# Altium integrated library NSC Switcher.IntLib: 2027 symbols (part 43 of 54)
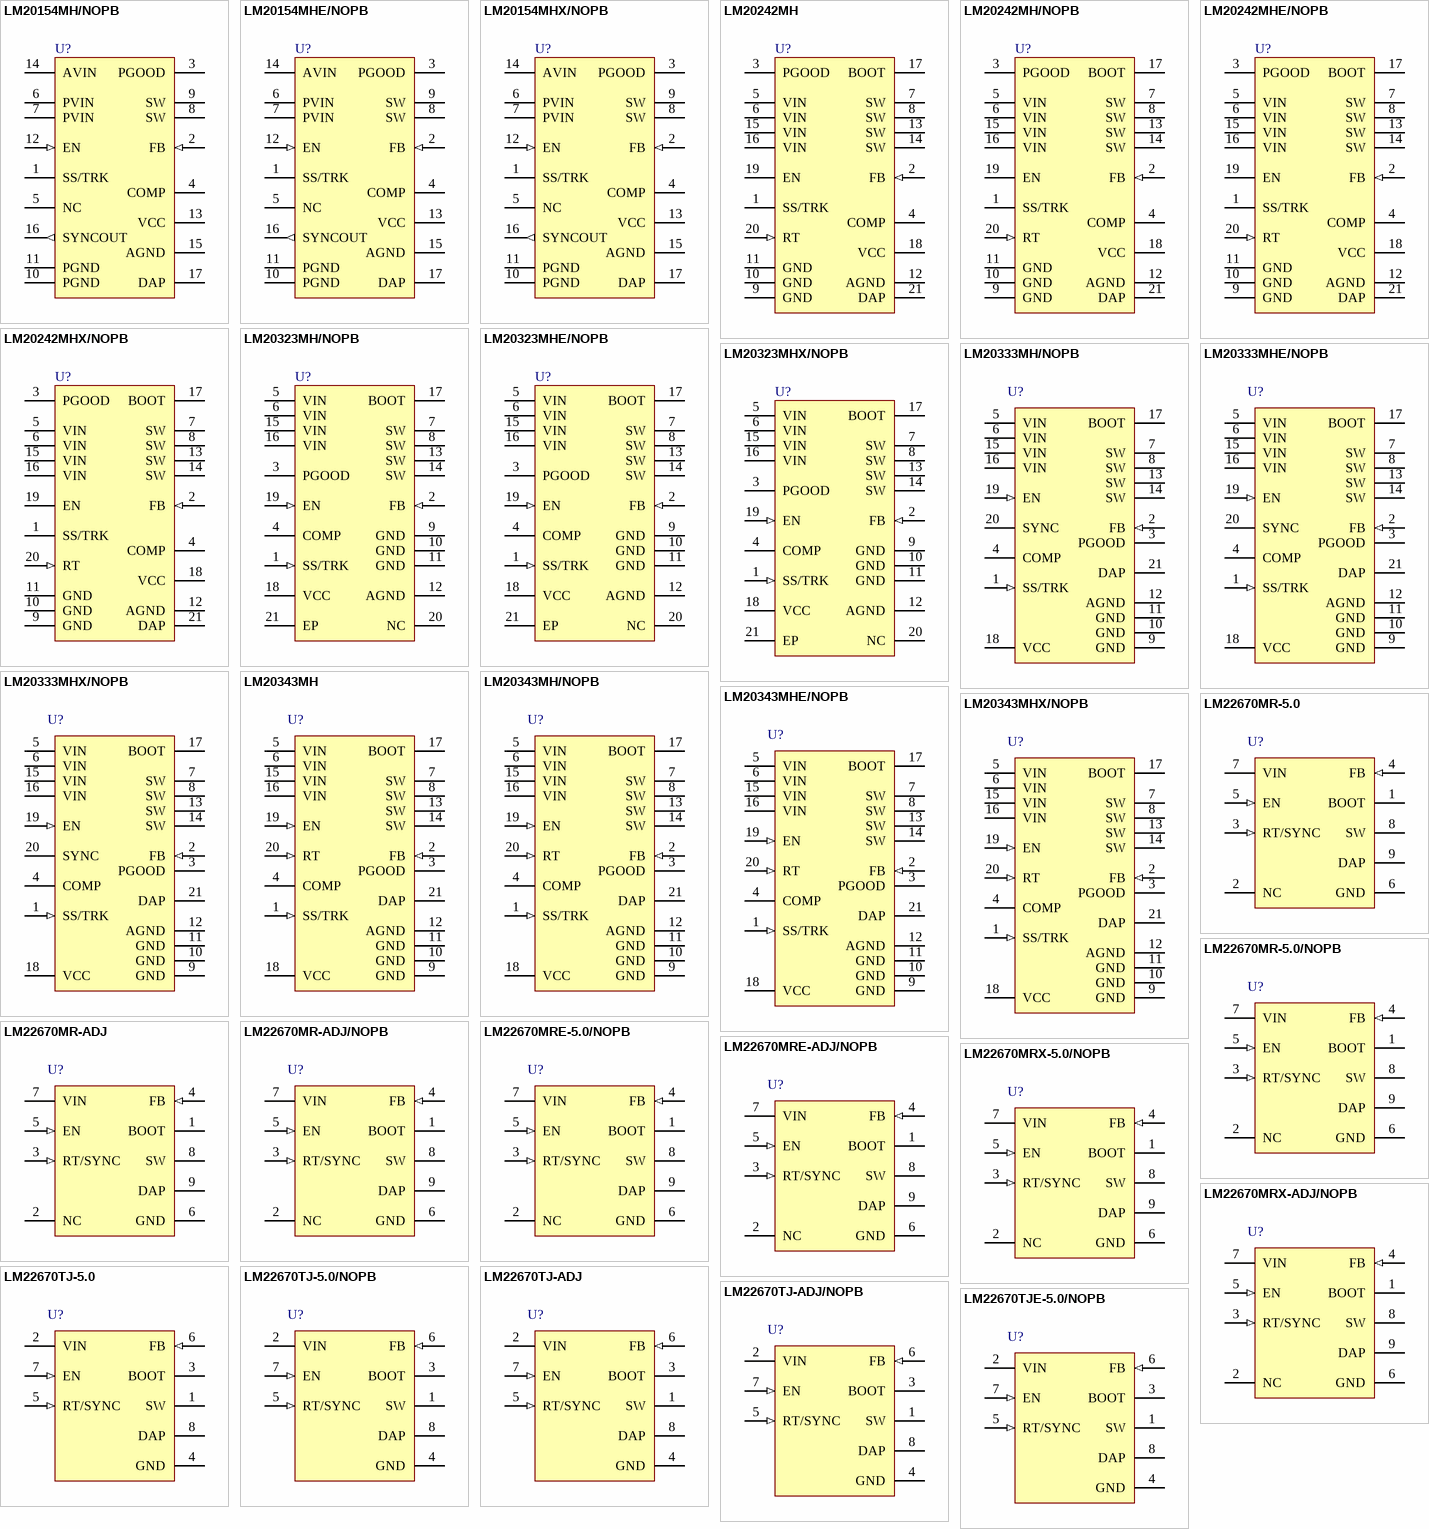
[diagram p105: symbols LM20154MH/NOPB to LM22670TJE-5.0/NOPB]

## LM20154MH/NOPB
designator U?
4A, 1MHz Synchronous Buck Regulator with SYNCOUT, 16-pin TSSOP-EP, Pb-Free; PartNumber: LM20154MH/NOPB; Manufacturer: National Semiconductor; PackageTopMarking: NSUZXYTT*20154*MH; PowerWise: Y; CompType: Switcher; Published: 1-Mar-2010; DatasheetVersion: Dec-2008; PackageVersion: revA, Apr-2003; PackageReference: MXA16A; Publisher: Altium Limited; PackageDescription: Molded TSSOP, Jedec, Exposed Pad, 5.0 x 4.4 x 0.9mm Body,16 Lead, 0.65mm Pitch; Supplier 1: Digi-Key; Supplier Part Number 1: LM20154MH-ND; RoHS: Y; PinCount: 16; Code_JEDEC: MO-153-ABT; ComponentLink1Description: LM20154 Datasheet; ComponentLink1URL: http://www.national.com/ds/LM/LM20154.pdf; ComponentLink2Description: LM20154 Web Page; ComponentLink2URL: http://www.national.com/pf/LM/LM20154.html; ComponentLink3Description: MXA16A Package Page; ComponentLink3URL: http://www.national.com/packaging/folders/mxa16a.html
footprint MXA16A_N (TSOP, 16-Leads, Body 5x4.4mm, Pitch 0.65mm, Exposed Pad, IPC Medium Density)
footprint MXA16A_L (TSOP, 16-Leads, Body 5x4.4mm, Pitch 0.65mm, Exposed Pad, IPC High Density)
footprint MXA16A_M (TSOP, 16-Leads, Body 5x4.4mm, Pitch 0.65mm, Exposed Pad, IPC Low Density)
pins: 1 SS/TRK, 2 FB (in), 3 PGOOD (oc), 4 COMP, 5 NC, 6 PVIN (power), 7 PVIN (power), 8 SW (power), 9 SW (power), 10 PGND (power), 11 PGND (power), 12 EN (in), 13 VCC (power), 14 AVIN (power), 15 AGND (power), 16 SYNCOUT (out), 17 DAP (power)

## LM20154MHE/NOPB
designator U?
4A, 1MHz Synchronous Buck Regulator with SYNCOUT, 16-pin TSSOP-EP, Pb-Free; PartNumber: LM20154MHE/NOPB; Manufacturer: National Semiconductor; PackageTopMarking: NSUZXYTT*20154*MH; PowerWise: Y; CompType: Switcher; Published: 1-Mar-2010; DatasheetVersion: Dec-2008; PackageVersion: revA, Apr-2003; PackageReference: MXA16A; Publisher: Altium Limited; PackageDescription: Molded TSSOP, Jedec, Exposed Pad, 5.0 x 4.4 x 0.9mm Body,16 Lead, 0.65mm Pitch; Supplier 1: Digi-Key; Supplier Part Number 1: LM20154MHE-ND; RoHS: Y; PinCount: 16; Code_JEDEC: MO-153-ABT; ComponentLink1Description: LM20154 Datasheet; ComponentLink1URL: http://www.national.com/ds/LM/LM20154.pdf; ComponentLink2Description: LM20154 Web Page; ComponentLink2URL: http://www.national.com/pf/LM/LM20154.html; ComponentLink3Description: MXA16A Package Page; ComponentLink3URL: http://www.national.com/packaging/folders/mxa16a.html
footprint MXA16A_N (TSOP, 16-Leads, Body 5x4.4mm, Pitch 0.65mm, Exposed Pad, IPC Medium Density)
footprint MXA16A_L (TSOP, 16-Leads, Body 5x4.4mm, Pitch 0.65mm, Exposed Pad, IPC High Density)
footprint MXA16A_M (TSOP, 16-Leads, Body 5x4.4mm, Pitch 0.65mm, Exposed Pad, IPC Low Density)
pins: 1 SS/TRK, 2 FB (in), 3 PGOOD (oc), 4 COMP, 5 NC, 6 PVIN (power), 7 PVIN (power), 8 SW (power), 9 SW (power), 10 PGND (power), 11 PGND (power), 12 EN (in), 13 VCC (power), 14 AVIN (power), 15 AGND (power), 16 SYNCOUT (out), 17 DAP (power)

## LM20154MHX/NOPB
designator U?
4A, 1MHz Synchronous Buck Regulator with SYNCOUT, 16-pin TSSOP-EP, Pb-Free; PartNumber: LM20154MHX/NOPB; Manufacturer: National Semiconductor; PackageTopMarking: NSUZXYTT*20154*MH; PowerWise: Y; CompType: Switcher; Published: 1-Mar-2010; DatasheetVersion: Dec-2008; PackageVersion: revA, Apr-2003; PackageReference: MXA16A; Publisher: Altium Limited; PackageDescription: Molded TSSOP, Jedec, Exposed Pad, 5.0 x 4.4 x 0.9mm Body,16 Lead, 0.65mm Pitch; Supplier 1: Digi-Key; Supplier Part Number 1: LM20154MHX-ND; RoHS: Y; PinCount: 16; Code_JEDEC: MO-153-ABT; ComponentLink1Description: LM20154 Datasheet; ComponentLink1URL: http://www.national.com/ds/LM/LM20154.pdf; ComponentLink2Description: LM20154 Web Page; ComponentLink2URL: http://www.national.com/pf/LM/LM20154.html; ComponentLink3Description: MXA16A Package Page; ComponentLink3URL: http://www.national.com/packaging/folders/mxa16a.html
footprint MXA16A_N (TSOP, 16-Leads, Body 5x4.4mm, Pitch 0.65mm, Exposed Pad, IPC Medium Density)
footprint MXA16A_L (TSOP, 16-Leads, Body 5x4.4mm, Pitch 0.65mm, Exposed Pad, IPC High Density)
footprint MXA16A_M (TSOP, 16-Leads, Body 5x4.4mm, Pitch 0.65mm, Exposed Pad, IPC Low Density)
pins: 1 SS/TRK, 2 FB (in), 3 PGOOD (oc), 4 COMP, 5 NC, 6 PVIN (power), 7 PVIN (power), 8 SW (power), 9 SW (power), 10 PGND (power), 11 PGND (power), 12 EN (in), 13 VCC (power), 14 AVIN (power), 15 AGND (power), 16 SYNCOUT (out), 17 DAP (power)

## LM20242MH
designator U?
36V, 2A PowerWise Adjustable Frequency Synchronous Buck Regulator, 20-pin TSSOP-EP; PartNumber: LM20242MH; Manufacturer: National Semiconductor; PackageTopMarking: NSUZXYTT*20242*MH; PowerWise: Y; CompType: Switcher; Published: 4-Dec-2008; DatasheetVersion: May-2008; PackageVersion: revC, Jul-2006; PackageReference: MXA20A; Publisher: Altium Limited; PackageDescription: Molded TSSOP, Jedec, 6.5 x 4.4 x 0.9mm Body, 20 Lead, 0.65mm Pitch, Exposed Pad; Supplier 1: Farnell; Supplier Part Number 1: 1495078; RoHS: Y; PinCount: 20; Code_JEDEC: MO-153-ACT; ComponentLink1Description: LM20242 Datasheet; ComponentLink1URL: http://www.national.com/ds/LM/LM20242.pdf; ComponentLink2Description: LM20242 Web Page; ComponentLink2URL: http://www.national.com/pf/LM/LM20242.html; ComponentLink3Description: MXA20A Package Page; ComponentLink3URL: http://www.national.com/packaging/folders/mxa20a.html
footprint MXA20A_N (TSOP, 20-Leads, Body 6.5x4.4mm, Pitch 0.65mm, Exposed Pad, IPC Medium Density)
footprint MXA20A_L (TSOP, 20-Leads, Body 6.5x4.4mm, Pitch 0.65mm, Exposed Pad, IPC High Density)
footprint MXA20A_M (TSOP, 20-Leads, Body 6.5x4.4mm, Pitch 0.65mm, Exposed Pad, IPC Low Density)
pins: 1 SS/TRK, 2 FB (in), 3 PGOOD (oc), 4 COMP, 5 VIN (power), 6 VIN (power), 7 SW (power), 8 SW (power), 9 GND (power), 10 GND (power), 11 GND (power), 12 AGND (power), 13 SW (power), 14 SW (power), 15 VIN (power), 16 VIN (power), 17 BOOT, 18 VCC (power), 19 EN, 20 RT (in), 21 DAP (power)

## LM20242MH/NOPB
designator U?
36V, 2A PowerWise Adjustable Frequency Synchronous Buck Regulator, 20-pin TSSOP-EP, Pb-Free; PartNumber: LM20242MH/NOPB; Manufacturer: National Semiconductor; PackageTopMarking: NSUZXYTT*20242*MH; PowerWise: Y; CompType: Switcher; Published: 1-Mar-2010; DatasheetVersion: May-2008; PackageVersion: revC, Jul-2006; PackageReference: MXA20A; Publisher: Altium Limited; PackageDescription: Molded TSSOP, Jedec, 6.5 x 4.4 x 0.9mm Body, 20 Lead, 0.65mm Pitch, Exposed Pad; Supplier 1: Digi-Key; Supplier Part Number 1: LM20242MH-ND; RoHS: Y; PinCount: 20; Code_JEDEC: MO-153-ACT; ComponentLink1Description: LM20242 Datasheet; ComponentLink1URL: http://www.national.com/ds/LM/LM20242.pdf; ComponentLink2Description: LM20242 Web Page; ComponentLink2URL: http://www.national.com/pf/LM/LM20242.html; ComponentLink3Description: MXA20A Package Page; ComponentLink3URL: http://www.national.com/packaging/folders/mxa20a.html
footprint MXA20A_N (TSOP, 20-Leads, Body 6.5x4.4mm, Pitch 0.65mm, Exposed Pad, IPC Medium Density)
footprint MXA20A_L (TSOP, 20-Leads, Body 6.5x4.4mm, Pitch 0.65mm, Exposed Pad, IPC High Density)
footprint MXA20A_M (TSOP, 20-Leads, Body 6.5x4.4mm, Pitch 0.65mm, Exposed Pad, IPC Low Density)
pins: 1 SS/TRK, 2 FB (in), 3 PGOOD (oc), 4 COMP, 5 VIN (power), 6 VIN (power), 7 SW (power), 8 SW (power), 9 GND (power), 10 GND (power), 11 GND (power), 12 AGND (power), 13 SW (power), 14 SW (power), 15 VIN (power), 16 VIN (power), 17 BOOT, 18 VCC (power), 19 EN, 20 RT (in), 21 DAP (power)

## LM20242MHE/NOPB
designator U?
36V, 2A PowerWise Adjustable Frequency Synchronous Buck Regulator, 20-pin TSSOP-EP, Pb-Free; PartNumber: LM20242MHE/NOPB; Manufacturer: National Semiconductor; PackageTopMarking: NSUZXYTT*20242*MH; PowerWise: Y; CompType: Switcher; Published: 1-Mar-2010; DatasheetVersion: May-2008; PackageVersion: revC, Jul-2006; PackageReference: MXA20A; Publisher: Altium Limited; PackageDescription: Molded TSSOP, Jedec, 6.5 x 4.4 x 0.9mm Body, 20 Lead, 0.65mm Pitch, Exposed Pad; Supplier 1: Digi-Key; Supplier Part Number 1: LM20242MHE-ND; RoHS: Y; PinCount: 20; Code_JEDEC: MO-153-ACT; ComponentLink1Description: LM20242 Datasheet; ComponentLink1URL: http://www.national.com/ds/LM/LM20242.pdf; ComponentLink2Description: LM20242 Web Page; ComponentLink2URL: http://www.national.com/pf/LM/LM20242.html; ComponentLink3Description: MXA20A Package Page; ComponentLink3URL: http://www.national.com/packaging/folders/mxa20a.html
footprint MXA20A_N (TSOP, 20-Leads, Body 6.5x4.4mm, Pitch 0.65mm, Exposed Pad, IPC Medium Density)
footprint MXA20A_L (TSOP, 20-Leads, Body 6.5x4.4mm, Pitch 0.65mm, Exposed Pad, IPC High Density)
footprint MXA20A_M (TSOP, 20-Leads, Body 6.5x4.4mm, Pitch 0.65mm, Exposed Pad, IPC Low Density)
pins: 1 SS/TRK, 2 FB (in), 3 PGOOD (oc), 4 COMP, 5 VIN (power), 6 VIN (power), 7 SW (power), 8 SW (power), 9 GND (power), 10 GND (power), 11 GND (power), 12 AGND (power), 13 SW (power), 14 SW (power), 15 VIN (power), 16 VIN (power), 17 BOOT, 18 VCC (power), 19 EN, 20 RT (in), 21 DAP (power)

## LM20242MHX/NOPB
designator U?
36V, 2A PowerWise Adjustable Frequency Synchronous Buck Regulator, 20-pin TSSOP-EP, Pb-Free; PartNumber: LM20242MHX/NOPB; Manufacturer: National Semiconductor; PackageTopMarking: NSUZXYTT*20242*MH; PowerWise: Y; CompType: Switcher; Published: 1-Mar-2010; DatasheetVersion: May-2008; PackageVersion: revC, Jul-2006; PackageReference: MXA20A; Publisher: Altium Limited; PackageDescription: Molded TSSOP, Jedec, 6.5 x 4.4 x 0.9mm Body, 20 Lead, 0.65mm Pitch, Exposed Pad; Supplier 1: Digi-Key; Supplier Part Number 1: LM20242MHX-ND; RoHS: Y; PinCount: 20; Code_JEDEC: MO-153-ACT; ComponentLink1Description: LM20242 Datasheet; ComponentLink1URL: http://www.national.com/ds/LM/LM20242.pdf; ComponentLink2Description: LM20242 Web Page; ComponentLink2URL: http://www.national.com/pf/LM/LM20242.html; ComponentLink3Description: MXA20A Package Page; ComponentLink3URL: http://www.national.com/packaging/folders/mxa20a.html
footprint MXA20A_N (TSOP, 20-Leads, Body 6.5x4.4mm, Pitch 0.65mm, Exposed Pad, IPC Medium Density)
footprint MXA20A_L (TSOP, 20-Leads, Body 6.5x4.4mm, Pitch 0.65mm, Exposed Pad, IPC High Density)
footprint MXA20A_M (TSOP, 20-Leads, Body 6.5x4.4mm, Pitch 0.65mm, Exposed Pad, IPC Low Density)
pins: 1 SS/TRK, 2 FB (in), 3 PGOOD (oc), 4 COMP, 5 VIN (power), 6 VIN (power), 7 SW (power), 8 SW (power), 9 GND (power), 10 GND (power), 11 GND (power), 12 AGND (power), 13 SW (power), 14 SW (power), 15 VIN (power), 16 VIN (power), 17 BOOT, 18 VCC (power), 19 EN, 20 RT (in), 21 DAP (power)

## LM20323MH/NOPB
designator U?
36V, 3A 500 kHz Synchronous Buck Regulator, 20-pin TSSOP-EP, Pb-Free; PartNumber: LM20323MH/NOPB; Manufacturer: National Semiconductor; PackageTopMarking: NSUZXYTT*20323MH; PowerWise: Y; CompType: Switcher; Published: 1-Mar-2010; DatasheetVersion: Jun-2008; PackageVersion: revC, Jul-2006; PackageReference: MXA20A; Publisher: Altium Limited; PackageDescription: Molded TSSOP, Jedec, 6.5 x 4.4 x 0.9mm Body, 20 Lead, 0.65mm Pitch, Exposed Pad; Supplier 1: Digi-Key; Supplier Part Number 1: LM20323MH-ND; RoHS: Y; PinCount: 20; Code_JEDEC: MO-153-ACT; ComponentLink1Description: LM20323 Datasheet; ComponentLink1URL: http://www.national.com/ds/LM/LM20323.pdf; ComponentLink2Description: LM20323 Web Page; ComponentLink2URL: http://www.national.com/pf/LM/LM20323.html; ComponentLink3Description: MXA20A Package Page; ComponentLink3URL: http://www.national.com/packaging/folders/mxa20a.html
footprint MXA20A_N (TSOP, 20-Leads, Body 6.5x4.4mm, Pitch 0.65mm, Exposed Pad, IPC Medium Density)
footprint MXA20A_L (TSOP, 20-Leads, Body 6.5x4.4mm, Pitch 0.65mm, Exposed Pad, IPC High Density)
footprint MXA20A_M (TSOP, 20-Leads, Body 6.5x4.4mm, Pitch 0.65mm, Exposed Pad, IPC Low Density)
pins: 1 SS/TRK (in), 2 FB (in), 3 PGOOD (oc), 4 COMP, 5 VIN (power), 6 VIN (power), 7 SW (power), 8 SW (power), 9 GND (power), 10 GND (power), 11 GND (power), 12 AGND (power), 13 SW (power), 14 SW (power), 15 VIN (power), 16 VIN (power), 17 BOOT, 18 VCC (power), 19 EN (in), 20 NC, 21 EP (power)

## LM20323MHE/NOPB
designator U?
36V,3A 500 kHz Synchronous Buck Regulator, 20-pin TSSOP-EP, Pb-Free; PartNumber: LM20323MHE/NOPB; Manufacturer: National Semiconductor; PackageTopMarking: NSUZXYTT*20323MH; PowerWise: Y; CompType: Switcher; Published: 1-Mar-2010; DatasheetVersion: Jun-2008; PackageVersion: revC, Jul-2006; PackageReference: MXA20A; Publisher: Altium Limited; PackageDescription: Molded TSSOP, Jedec, 6.5 x 4.4 x 0.9mm Body, 20 Lead, 0.65mm Pitch, Exposed Pad; Supplier 1: Digi-Key; Supplier Part Number 1: LM20323MHE-ND; RoHS: Y; PinCount: 20; Code_JEDEC: MO-153-ACT; ComponentLink1Description: LM20323 Datasheet; ComponentLink1URL: http://www.national.com/ds/LM/LM20323.pdf; ComponentLink2Description: LM20323 Web Page; ComponentLink2URL: http://www.national.com/pf/LM/LM20323.html; ComponentLink3Description: MXA20A Package Page; ComponentLink3URL: http://www.national.com/packaging/folders/mxa20a.html
footprint MXA20A_N (TSOP, 20-Leads, Body 6.5x4.4mm, Pitch 0.65mm, Exposed Pad, IPC Medium Density)
footprint MXA20A_L (TSOP, 20-Leads, Body 6.5x4.4mm, Pitch 0.65mm, Exposed Pad, IPC High Density)
footprint MXA20A_M (TSOP, 20-Leads, Body 6.5x4.4mm, Pitch 0.65mm, Exposed Pad, IPC Low Density)
pins: 1 SS/TRK (in), 2 FB (in), 3 PGOOD (oc), 4 COMP, 5 VIN (power), 6 VIN (power), 7 SW (power), 8 SW (power), 9 GND (power), 10 GND (power), 11 GND (power), 12 AGND (power), 13 SW (power), 14 SW (power), 15 VIN (power), 16 VIN (power), 17 BOOT, 18 VCC (power), 19 EN (in), 20 NC, 21 EP (power)

## LM20323MHX/NOPB
designator U?
36V,3A 500 kHz Synchronous Buck Regulator, 20-pin TSSOP-EP, Pb-Free; PartNumber: LM20323MHX/NOPB; Manufacturer: National Semiconductor; PackageTopMarking: NSUZXYTT*20323MH; PowerWise: Y; CompType: Switcher; Published: 1-Mar-2010; DatasheetVersion: Jun-2008; PackageVersion: revC, Jul-2006; PackageReference: MXA20A; Publisher: Altium Limited; PackageDescription: Molded TSSOP, Jedec, 6.5 x 4.4 x 0.9mm Body, 20 Lead, 0.65mm Pitch, Exposed Pad; Supplier 1: Digi-Key; Supplier Part Number 1: LM20323MHX-ND; RoHS: Y; PinCount: 20; Code_JEDEC: MO-153-ACT; ComponentLink1Description: LM20323 Datasheet; ComponentLink1URL: http://www.national.com/ds/LM/LM20323.pdf; ComponentLink2Description: LM20323 Web Page; ComponentLink2URL: http://www.national.com/pf/LM/LM20323.html; ComponentLink3Description: MXA20A Package Page; ComponentLink3URL: http://www.national.com/packaging/folders/mxa20a.html
footprint MXA20A_N (TSOP, 20-Leads, Body 6.5x4.4mm, Pitch 0.65mm, Exposed Pad, IPC Medium Density)
footprint MXA20A_L (TSOP, 20-Leads, Body 6.5x4.4mm, Pitch 0.65mm, Exposed Pad, IPC High Density)
footprint MXA20A_M (TSOP, 20-Leads, Body 6.5x4.4mm, Pitch 0.65mm, Exposed Pad, IPC Low Density)
pins: 1 SS/TRK (in), 2 FB (in), 3 PGOOD (oc), 4 COMP, 5 VIN (power), 6 VIN (power), 7 SW (power), 8 SW (power), 9 GND (power), 10 GND (power), 11 GND (power), 12 AGND (power), 13 SW (power), 14 SW (power), 15 VIN (power), 16 VIN (power), 17 BOOT, 18 VCC (power), 19 EN (in), 20 NC, 21 EP (power)

## LM20333MH/NOPB
designator U?
36V, 3A Synchronous Buck Regulator with Frequency Synchronization, 20-pin TSSOP-EP, Pb-Free; PartNumber: LM20333MH/NOPB; Manufacturer: National Semiconductor; PackageTopMarking: NSUZXYTT*20333MH; PowerWise: Y; CompType: Switcher; Published: 1-Mar-2010; DatasheetVersion: Jun-2008; PackageVersion: revC, Jul-2006; PackageReference: MXA20A; Publisher: Altium Limited; PackageDescription: Molded TSSOP, Jedec, 6.5 x 4.4 x 0.9mm Body, 20 Lead, 0.65mm Pitch, Exposed Pad; Supplier 1: Digi-Key; Supplier Part Number 1: LM20333MH-ND; RoHS: Y; PinCount: 20; Code_JEDEC: MO-153-ACT; ComponentLink1Description: LM20333 Datasheet; ComponentLink1URL: http://www.national.com/ds/LM/LM20333.pdf; ComponentLink2Description: LM20333 Web Page; ComponentLink2URL: http://www.national.com/pf/LM/LM20333.html; ComponentLink3Description: MXA20A Package Page; ComponentLink3URL: http://www.national.com/packaging/folders/mxa20a.html
footprint MXA20A_N (TSOP, 20-Leads, Body 6.5x4.4mm, Pitch 0.65mm, Exposed Pad, IPC Medium Density)
footprint MXA20A_L (TSOP, 20-Leads, Body 6.5x4.4mm, Pitch 0.65mm, Exposed Pad, IPC High Density)
footprint MXA20A_M (TSOP, 20-Leads, Body 6.5x4.4mm, Pitch 0.65mm, Exposed Pad, IPC Low Density)
pins: 1 SS/TRK (in), 2 FB (in), 3 PGOOD (oc), 4 COMP, 5 VIN (power), 6 VIN (power), 7 SW (power), 8 SW (power), 9 GND (power), 10 GND (power), 11 GND (power), 12 AGND (power), 13 SW (power), 14 SW (power), 15 VIN (power), 16 VIN (power), 17 BOOT, 18 VCC (power), 19 EN (in), 20 SYNC, 21 DAP (power)

## LM20333MHE/NOPB
designator U?
36V, 3A Synchronous Buck Regulator with Frequency Synchronization, 20-pin TSSOP-EP, Pb-Free; PartNumber: LM20333MHE/NOPB; Manufacturer: National Semiconductor; PackageTopMarking: NSUZXYTT*20333MH; PowerWise: Y; CompType: Switcher; Published: 1-Mar-2010; DatasheetVersion: Jun-2008; PackageVersion: revC, Jul-2006; PackageReference: MXA20A; Publisher: Altium Limited; PackageDescription: Molded TSSOP, Jedec, 6.5 x 4.4 x 0.9mm Body, 20 Lead, 0.65mm Pitch, Exposed Pad; Supplier 1: Digi-Key; Supplier Part Number 1: LM20333MHE-ND; RoHS: Y; PinCount: 20; Code_JEDEC: MO-153-ACT; ComponentLink1Description: LM20333 Datasheet; ComponentLink1URL: http://www.national.com/ds/LM/LM20333.pdf; ComponentLink2Description: LM20333 Web Page; ComponentLink2URL: http://www.national.com/pf/LM/LM20333.html; ComponentLink3Description: MXA20A Package Page; ComponentLink3URL: http://www.national.com/packaging/folders/mxa20a.html
footprint MXA20A_N (TSOP, 20-Leads, Body 6.5x4.4mm, Pitch 0.65mm, Exposed Pad, IPC Medium Density)
footprint MXA20A_L (TSOP, 20-Leads, Body 6.5x4.4mm, Pitch 0.65mm, Exposed Pad, IPC High Density)
footprint MXA20A_M (TSOP, 20-Leads, Body 6.5x4.4mm, Pitch 0.65mm, Exposed Pad, IPC Low Density)
pins: 1 SS/TRK (in), 2 FB (in), 3 PGOOD (oc), 4 COMP, 5 VIN (power), 6 VIN (power), 7 SW (power), 8 SW (power), 9 GND (power), 10 GND (power), 11 GND (power), 12 AGND (power), 13 SW (power), 14 SW (power), 15 VIN (power), 16 VIN (power), 17 BOOT, 18 VCC (power), 19 EN (in), 20 SYNC, 21 DAP (power)

## LM20333MHX/NOPB
designator U?
36V, 3A Synchronous Buck Regulator with Frequency Synchronization, 20-pin TSSOP-EP, Pb-Free; PartNumber: LM20333MHX/NOPB; Manufacturer: National Semiconductor; PackageTopMarking: NSUZXYTT*20333MH; PowerWise: Y; CompType: Switcher; Published: 1-Mar-2010; DatasheetVersion: Jun-2008; PackageVersion: revC, Jul-2006; PackageReference: MXA20A; Publisher: Altium Limited; PackageDescription: Molded TSSOP, Jedec, 6.5 x 4.4 x 0.9mm Body, 20 Lead, 0.65mm Pitch, Exposed Pad; Supplier 1: Digi-Key; Supplier Part Number 1: LM20333MHX-ND; RoHS: Y; PinCount: 20; Code_JEDEC: MO-153-ACT; ComponentLink1Description: LM20333 Datasheet; ComponentLink1URL: http://www.national.com/ds/LM/LM20333.pdf; ComponentLink2Description: LM20333 Web Page; ComponentLink2URL: http://www.national.com/pf/LM/LM20333.html; ComponentLink3Description: MXA20A Package Page; ComponentLink3URL: http://www.national.com/packaging/folders/mxa20a.html
footprint MXA20A_N (TSOP, 20-Leads, Body 6.5x4.4mm, Pitch 0.65mm, Exposed Pad, IPC Medium Density)
footprint MXA20A_L (TSOP, 20-Leads, Body 6.5x4.4mm, Pitch 0.65mm, Exposed Pad, IPC High Density)
footprint MXA20A_M (TSOP, 20-Leads, Body 6.5x4.4mm, Pitch 0.65mm, Exposed Pad, IPC Low Density)
pins: 1 SS/TRK (in), 2 FB (in), 3 PGOOD (oc), 4 COMP, 5 VIN (power), 6 VIN (power), 7 SW (power), 8 SW (power), 9 GND (power), 10 GND (power), 11 GND (power), 12 AGND (power), 13 SW (power), 14 SW (power), 15 VIN (power), 16 VIN (power), 17 BOOT, 18 VCC (power), 19 EN (in), 20 SYNC, 21 DAP (power)

## LM20343MH
designator U?
36V, 3A Adjustable Frequency Synchronous Buck Regulator, 20-pin TSSOP-EP; PartNumber: LM20343MH; Manufacturer: National Semiconductor; PackageTopMarking: NSUZXYTT*20343MH; PowerWise: Y; CompType: Switcher; Published: 4-Dec-2008; DatasheetVersion: Aug-2008; PackageVersion: revC, Jul-2006; PackageReference: MXA20A; Publisher: Altium Limited; PackageDescription: Molded TSSOP, Jedec, 6.5 x 4.4 x 0.9mm Body, 20 Lead, 0.65mm Pitch, Exposed Pad; Supplier 1: Farnell; Supplier Part Number 1: 1663009; RoHS: Y; PinCount: 20; Code_JEDEC: MO-153-ACT; ComponentLink1Description: LM20343 Datasheet; ComponentLink1URL: http://www.national.com/ds/LM/LM20343.pdf; ComponentLink2Description: LM20343 Web Page; ComponentLink2URL: http://www.national.com/pf/LM/LM20343.html; ComponentLink3Description: MXA20A Package Page; ComponentLink3URL: http://www.national.com/packaging/folders/mxa20a.html
footprint MXA20A_N (TSOP, 20-Leads, Body 6.5x4.4mm, Pitch 0.65mm, Exposed Pad, IPC Medium Density)
footprint MXA20A_L (TSOP, 20-Leads, Body 6.5x4.4mm, Pitch 0.65mm, Exposed Pad, IPC High Density)
footprint MXA20A_M (TSOP, 20-Leads, Body 6.5x4.4mm, Pitch 0.65mm, Exposed Pad, IPC Low Density)
pins: 1 SS/TRK (in), 2 FB (in), 3 PGOOD (oc), 4 COMP, 5 VIN (power), 6 VIN (power), 7 SW (power), 8 SW (power), 9 GND (power), 10 GND (power), 11 GND (power), 12 AGND (power), 13 SW (power), 14 SW (power), 15 VIN (power), 16 VIN (power), 17 BOOT, 18 VCC (power), 19 EN (in), 20 RT (in), 21 DAP (power)

## LM20343MH/NOPB
designator U?
36V, 3A Adjustable Frequency Synchronous Buck Regulator, 20-pin TSSOP-EP, Pb-Free; PartNumber: LM20343MH/NOPB; Manufacturer: National Semiconductor; PackageTopMarking: NSUZXYTT*20343MH; PowerWise: Y; CompType: Switcher; Published: 1-Mar-2010; DatasheetVersion: Aug-2008; PackageVersion: revC, Jul-2006; PackageReference: MXA20A; Publisher: Altium Limited; PackageDescription: Molded TSSOP, Jedec, 6.5 x 4.4 x 0.9mm Body, 20 Lead, 0.65mm Pitch, Exposed Pad; Supplier 1: Digi-Key; Supplier Part Number 1: LM20343MH-ND; Supplier 2: Farnell; Supplier Part Number 2: 1641473; RoHS: Y; PinCount: 20; Code_JEDEC: MO-153-ACT; ComponentLink1Description: LM20343 Datasheet; ComponentLink1URL: http://www.national.com/ds/LM/LM20343.pdf; ComponentLink2Description: LM20343 Web Page; ComponentLink2URL: http://www.national.com/pf/LM/LM20343.html; ComponentLink3Description: MXA20A Package Page; ComponentLink3URL: http://www.national.com/packaging/folders/mxa20a.html
footprint MXA20A_N (TSOP, 20-Leads, Body 6.5x4.4mm, Pitch 0.65mm, Exposed Pad, IPC Medium Density)
footprint MXA20A_L (TSOP, 20-Leads, Body 6.5x4.4mm, Pitch 0.65mm, Exposed Pad, IPC High Density)
footprint MXA20A_M (TSOP, 20-Leads, Body 6.5x4.4mm, Pitch 0.65mm, Exposed Pad, IPC Low Density)
pins: 1 SS/TRK (in), 2 FB (in), 3 PGOOD (oc), 4 COMP, 5 VIN (power), 6 VIN (power), 7 SW (power), 8 SW (power), 9 GND (power), 10 GND (power), 11 GND (power), 12 AGND (power), 13 SW (power), 14 SW (power), 15 VIN (power), 16 VIN (power), 17 BOOT, 18 VCC (power), 19 EN (in), 20 RT (in), 21 DAP (power)

## LM20343MHE/NOPB
designator U?
36V, 3A Adjustable Frequency Synchronous Buck Regulator, 20-pin TSSOP-EP, Pb-Free; PartNumber: LM20343MHE/NOPB; Manufacturer: National Semiconductor; PackageTopMarking: NSUZXYTT*20343MH; PowerWise: Y; CompType: Switcher; Published: 1-Mar-2010; DatasheetVersion: Aug-2008; PackageVersion: revC, Jul-2006; PackageReference: MXA20A; Publisher: Altium Limited; PackageDescription: Molded TSSOP, Jedec, 6.5 x 4.4 x 0.9mm Body, 20 Lead, 0.65mm Pitch, Exposed Pad; Supplier 1: Digi-Key; Supplier Part Number 1: LM20343MHE-ND; RoHS: Y; PinCount: 20; Code_JEDEC: MO-153-ACT; ComponentLink1Description: LM20343 Datasheet; ComponentLink1URL: http://www.national.com/ds/LM/LM20343.pdf; ComponentLink2Description: LM20343 Web Page; ComponentLink2URL: http://www.national.com/pf/LM/LM20343.html; ComponentLink3Description: MXA20A Package Page; ComponentLink3URL: http://www.national.com/packaging/folders/mxa20a.html
footprint MXA20A_N (TSOP, 20-Leads, Body 6.5x4.4mm, Pitch 0.65mm, Exposed Pad, IPC Medium Density)
footprint MXA20A_L (TSOP, 20-Leads, Body 6.5x4.4mm, Pitch 0.65mm, Exposed Pad, IPC High Density)
footprint MXA20A_M (TSOP, 20-Leads, Body 6.5x4.4mm, Pitch 0.65mm, Exposed Pad, IPC Low Density)
pins: 1 SS/TRK (in), 2 FB (in), 3 PGOOD (oc), 4 COMP, 5 VIN (power), 6 VIN (power), 7 SW (power), 8 SW (power), 9 GND (power), 10 GND (power), 11 GND (power), 12 AGND (power), 13 SW (power), 14 SW (power), 15 VIN (power), 16 VIN (power), 17 BOOT, 18 VCC (power), 19 EN (in), 20 RT (in), 21 DAP (power)

## LM20343MHX/NOPB
designator U?
36V, 3A Adjustable Frequency Synchronous Buck Regulator, 20-pin TSSOP-EP, Pb-Free; PartNumber: LM20343MHX/NOPB; Manufacturer: National Semiconductor; PackageTopMarking: NSUZXYTT*20343MH; PowerWise: Y; CompType: Switcher; Published: 1-Mar-2010; DatasheetVersion: Aug-2008; PackageVersion: revC, Jul-2006; PackageReference: MXA20A; Publisher: Altium Limited; PackageDescription: Molded TSSOP, Jedec, 6.5 x 4.4 x 0.9mm Body, 20 Lead, 0.65mm Pitch, Exposed Pad; Supplier 1: Digi-Key; Supplier Part Number 1: LM20343MHX-ND; RoHS: Y; PinCount: 20; Code_JEDEC: MO-153-ACT; ComponentLink1Description: LM20343 Datasheet; ComponentLink1URL: http://www.national.com/ds/LM/LM20343.pdf; ComponentLink2Description: LM20343 Web Page; ComponentLink2URL: http://www.national.com/pf/LM/LM20343.html; ComponentLink3Description: MXA20A Package Page; ComponentLink3URL: http://www.national.com/packaging/folders/mxa20a.html
footprint MXA20A_N (TSOP, 20-Leads, Body 6.5x4.4mm, Pitch 0.65mm, Exposed Pad, IPC Medium Density)
footprint MXA20A_L (TSOP, 20-Leads, Body 6.5x4.4mm, Pitch 0.65mm, Exposed Pad, IPC High Density)
footprint MXA20A_M (TSOP, 20-Leads, Body 6.5x4.4mm, Pitch 0.65mm, Exposed Pad, IPC Low Density)
pins: 1 SS/TRK (in), 2 FB (in), 3 PGOOD (oc), 4 COMP, 5 VIN (power), 6 VIN (power), 7 SW (power), 8 SW (power), 9 GND (power), 10 GND (power), 11 GND (power), 12 AGND (power), 13 SW (power), 14 SW (power), 15 VIN (power), 16 VIN (power), 17 BOOT, 18 VCC (power), 19 EN (in), 20 RT (in), 21 DAP (power)

## LM22670MR-5.0
designator U?
3A SIMPLE SWITCHER® Step-Down Voltage Regulator with Synchronization or Adjustable Switching Frequency, 8-pin PSOP; PartNumber: LM22670MR-5.0; Manufacturer: National Semiconductor; PackageTopMarking: NSXYTT*L22670*5.0; PowerWise: N; Published: 4-Dec-2008; DatasheetVersion: Oct-2008; PackageVersion: revB, Dec-2007; PackageReference: MRA08B; Publisher: Altium Limited; PackageDescription: Molded, PSOP .193 x .154 x .058in, 8 Lead, .050in Pitch, Large DAP; RoHS: Y; PinCount: 8; CompType: Switcher; Code_JEDEC: MS-012-AA; ComponentLink1Description: LM22670 Datasheet; ComponentLink1URL: http://www.national.com/ds/LM/LM22670.pdf; ComponentLink2Description: LM22670 Web Page; ComponentLink2URL: http://www.national.com/pf/LM/LM22670.html; ComponentLink3Description: MRA08B Package Page; ComponentLink3URL: http://www.national.com/packaging/folders/mra08b.html
footprint MRA08B_N (SOIC, 8-Leads, Body 4.9x3.9mm, Pitch 1.27mm, Exposed Pad, IPC Medium Density)
footprint MRA08B_L (SOIC, 8-Leads, Body 4.9x3.9mm, Pitch 1.27mm, Exposed Pad, IPC High Density)
footprint MRA08B_M (SOIC, 8-Leads, Body 4.9x3.9mm, Pitch 1.27mm, Exposed Pad, IPC Low Density)
pins: 1 BOOT, 2 NC, 3 RT/SYNC (in), 4 FB (in), 5 EN (in), 6 GND (power), 7 VIN (power), 8 SW (power), 9 DAP (power)

## LM22670MR-5.0/NOPB
designator U?
3A SIMPLE SWITCHER®, Step-Down Voltage Regulator with Synchronization or Adjustable Switching Frequency, 8-pin PSOP, Pb-Free; PartNumber: LM22670MR-5.0/NOPB; Manufacturer: National Semiconductor; PackageTopMarking: NSXYTT*L22670*5.0; PowerWise: N; Published: 1-Mar-2010; DatasheetVersion: Oct-2008; PackageVersion: revB, Dec-2007; PackageReference: MRA08B; Publisher: Altium Limited; PackageDescription: Molded, PSOP .193 x .154 x .058in, 8 Lead, .050in Pitch, Large DAP; Supplier 1: Digi-Key; Supplier Part Number 1: LM22670MR-5.0-ND; RoHS: Y; PinCount: 8; CompType: Switcher; Code_JEDEC: MS-012-AA; ComponentLink1Description: LM22670 Datasheet; ComponentLink1URL: http://www.national.com/ds/LM/LM22670.pdf; ComponentLink2Description: LM22670 Web Page; ComponentLink2URL: http://www.national.com/pf/LM/LM22670.html; ComponentLink3Description: MRA08B Package Page; ComponentLink3URL: http://www.national.com/packaging/folders/mra08b.html
footprint MRA08B_N (SOIC, 8-Leads, Body 4.9x3.9mm, Pitch 1.27mm, Exposed Pad, IPC Medium Density)
footprint MRA08B_L (SOIC, 8-Leads, Body 4.9x3.9mm, Pitch 1.27mm, Exposed Pad, IPC High Density)
footprint MRA08B_M (SOIC, 8-Leads, Body 4.9x3.9mm, Pitch 1.27mm, Exposed Pad, IPC Low Density)
pins: 1 BOOT, 2 NC, 3 RT/SYNC (in), 4 FB (in), 5 EN (in), 6 GND (power), 7 VIN (power), 8 SW (power), 9 DAP (power)

## LM22670MR-ADJ
designator U?
3A SIMPLE SWITCHER® Step-Down Voltage Regulator with Synchronization or Adjustable Switching Frequency, 8-pin PSOP; PartNumber: LM22670MR-ADJ; Manufacturer: National Semiconductor; PackageTopMarking: NSXYTT*L22670*ADJ; PowerWise: N; Published: 4-Dec-2008; DatasheetVersion: Oct-2008; PackageVersion: revB, Dec-2007; PackageReference: MRA08B; Publisher: Altium Limited; PackageDescription: Molded, PSOP .193 x .154 x .058in, 8 Lead, .050in Pitch, Large DAP; Supplier 1: Farnell; Supplier Part Number 1: 1657735; RoHS: Y; PinCount: 8; CompType: Switcher; Code_JEDEC: MS-012-AA; ComponentLink1Description: LM22670 Datasheet; ComponentLink1URL: http://www.national.com/ds/LM/LM22670.pdf; ComponentLink2Description: LM22670 Web Page; ComponentLink2URL: http://www.national.com/pf/LM/LM22670.html; ComponentLink3Description: MRA08B Package Page; ComponentLink3URL: http://www.national.com/packaging/folders/mra08b.html
footprint MRA08B_N (SOIC, 8-Leads, Body 4.9x3.9mm, Pitch 1.27mm, Exposed Pad, IPC Medium Density)
footprint MRA08B_L (SOIC, 8-Leads, Body 4.9x3.9mm, Pitch 1.27mm, Exposed Pad, IPC High Density)
footprint MRA08B_M (SOIC, 8-Leads, Body 4.9x3.9mm, Pitch 1.27mm, Exposed Pad, IPC Low Density)
pins: 1 BOOT, 2 NC, 3 RT/SYNC (in), 4 FB (in), 5 EN (in), 6 GND (power), 7 VIN (power), 8 SW (power), 9 DAP (power)

## LM22670MR-ADJ/NOPB
designator U?
3A SIMPLE SWITCHER®, Step-Down Voltage Regulator with Synchronization or Adjustable Switching Frequency, 8-pin PSOP, Pb-Free; PartNumber: LM22670MR-ADJ/NOPB; Manufacturer: National Semiconductor; PackageTopMarking: NSXYTT*L22670*ADJ; PowerWise: N; Published: 1-Mar-2010; DatasheetVersion: Oct-2008; PackageVersion: revB, Dec-2007; PackageReference: MRA08B; Publisher: Altium Limited; PackageDescription: Molded, PSOP .193 x .154 x .058in, 8 Lead, .050in Pitch, Large DAP; Supplier 1: Digi-Key; Supplier Part Number 1: LM22670MR-ADJ-ND; RoHS: Y; PinCount: 8; CompType: Switcher; Code_JEDEC: MS-012-AA; ComponentLink1Description: LM22670 Datasheet; ComponentLink1URL: http://www.national.com/ds/LM/LM22670.pdf; ComponentLink2Description: LM22670 Web Page; ComponentLink2URL: http://www.national.com/pf/LM/LM22670.html; ComponentLink3Description: MRA08B Package Page; ComponentLink3URL: http://www.national.com/packaging/folders/mra08b.html
footprint MRA08B_N (SOIC, 8-Leads, Body 4.9x3.9mm, Pitch 1.27mm, Exposed Pad, IPC Medium Density)
footprint MRA08B_L (SOIC, 8-Leads, Body 4.9x3.9mm, Pitch 1.27mm, Exposed Pad, IPC High Density)
footprint MRA08B_M (SOIC, 8-Leads, Body 4.9x3.9mm, Pitch 1.27mm, Exposed Pad, IPC Low Density)
pins: 1 BOOT, 2 NC, 3 RT/SYNC (in), 4 FB (in), 5 EN (in), 6 GND (power), 7 VIN (power), 8 SW (power), 9 DAP (power)

## LM22670MRE-5.0/NOPB
designator U?
3A SIMPLE SWITCHER®, Step-Down Voltage Regulator with Synchronization or Adjustable Switching Frequency, 8-pin PSOP, Pb-Free; PartNumber: LM22670MRE-5.0/NOPB; Manufacturer: National Semiconductor; PackageTopMarking: NSXYTT*L22670*5.0; PowerWise: N; Published: 1-Mar-2010; DatasheetVersion: Oct-2008; PackageVersion: revB, Dec-2007; PackageReference: MRA08B; Publisher: Altium Limited; PackageDescription: Molded, PSOP .193 x .154 x .058in, 8 Lead, .050in Pitch, Large DAP; Supplier 1: Digi-Key; Supplier Part Number 1: LM22670MRE-5.0TR-ND; Supplier 2: Digi-Key; Supplier Part Number 2: LM22670MRE-5.0CT-ND; Supplier 3: Digi-Key; Supplier Part Number 3: LM22670MRE-5.0DKR-ND; Supplier 4: Farnell; Supplier Part Number 4: 1685792; RoHS: Y; PinCount: 8; CompType: Switcher; Code_JEDEC: MS-012-AA; ComponentLink1Description: LM22670 Datasheet; ComponentLink1URL: http://www.national.com/ds/LM/LM22670.pdf; ComponentLink2Description: LM22670 Web Page; ComponentLink2URL: http://www.national.com/pf/LM/LM22670.html; ComponentLink3Description: MRA08B Package Page; ComponentLink3URL: http://www.national.com/packaging/folders/mra08b.html
footprint MRA08B_N (SOIC, 8-Leads, Body 4.9x3.9mm, Pitch 1.27mm, Exposed Pad, IPC Medium Density)
footprint MRA08B_L (SOIC, 8-Leads, Body 4.9x3.9mm, Pitch 1.27mm, Exposed Pad, IPC High Density)
footprint MRA08B_M (SOIC, 8-Leads, Body 4.9x3.9mm, Pitch 1.27mm, Exposed Pad, IPC Low Density)
pins: 1 BOOT, 2 NC, 3 RT/SYNC (in), 4 FB (in), 5 EN (in), 6 GND (power), 7 VIN (power), 8 SW (power), 9 DAP (power)

## LM22670MRE-ADJ/NOPB
designator U?
3A SIMPLE SWITCHER®, Step-Down Voltage Regulator with Synchronization or Adjustable Switching Frequency, 8-pin PSOP, Pb-Free; PartNumber: LM22670MRE-ADJ/NOPB; Manufacturer: National Semiconductor; PackageTopMarking: NSXYTT*L22670*ADJ; PowerWise: N; Published: 1-Mar-2010; DatasheetVersion: Oct-2008; PackageVersion: revB, Dec-2007; PackageReference: MRA08B; Publisher: Altium Limited; PackageDescription: Molded, PSOP .193 x .154 x .058in, 8 Lead, .050in Pitch, Large DAP; Supplier 1: Digi-Key; Supplier Part Number 1: LM22670MRE-ADJTR-ND; Supplier 2: Digi-Key; Supplier Part Number 2: LM22670MRE-ADJCT-ND; Supplier 3: Digi-Key; Supplier Part Number 3: LM22670MRE-ADJDKR-ND; Supplier 4: Farnell; Supplier Part Number 4: 1685791; RoHS: Y; PinCount: 8; CompType: Switcher; Code_JEDEC: MS-012-AA; ComponentLink1Description: LM22670 Datasheet; ComponentLink1URL: http://www.national.com/ds/LM/LM22670.pdf; ComponentLink2Description: LM22670 Web Page; ComponentLink2URL: http://www.national.com/pf/LM/LM22670.html; ComponentLink3Description: MRA08B Package Page; ComponentLink3URL: http://www.national.com/packaging/folders/mra08b.html
footprint MRA08B_N (SOIC, 8-Leads, Body 4.9x3.9mm, Pitch 1.27mm, Exposed Pad, IPC Medium Density)
footprint MRA08B_L (SOIC, 8-Leads, Body 4.9x3.9mm, Pitch 1.27mm, Exposed Pad, IPC High Density)
footprint MRA08B_M (SOIC, 8-Leads, Body 4.9x3.9mm, Pitch 1.27mm, Exposed Pad, IPC Low Density)
pins: 1 BOOT, 2 NC, 3 RT/SYNC (in), 4 FB (in), 5 EN (in), 6 GND (power), 7 VIN (power), 8 SW (power), 9 DAP (power)

## LM22670MRX-5.0/NOPB
designator U?
3A SIMPLE SWITCHER®, Step-Down Voltage Regulator with Synchronization or Adjustable Switching Frequency, 8-pin PSOP, Pb-Free; PartNumber: LM22670MRX-5.0/NOPB; Manufacturer: National Semiconductor; PackageTopMarking: NSXYTT*L22670*5.0; PowerWise: N; Published: 1-Mar-2010; DatasheetVersion: Oct-2008; PackageVersion: revB, Dec-2007; PackageReference: MRA08B; Publisher: Altium Limited; PackageDescription: Molded, PSOP .193 x .154 x .058in, 8 Lead, .050in Pitch, Large DAP; Supplier 1: Digi-Key; Supplier Part Number 1: LM22670MRX-5.0-ND; RoHS: Y; PinCount: 8; CompType: Switcher; Code_JEDEC: MS-012-AA; ComponentLink1Description: LM22670 Datasheet; ComponentLink1URL: http://www.national.com/ds/LM/LM22670.pdf; ComponentLink2Description: LM22670 Web Page; ComponentLink2URL: http://www.national.com/pf/LM/LM22670.html; ComponentLink3Description: MRA08B Package Page; ComponentLink3URL: http://www.national.com/packaging/folders/mra08b.html
footprint MRA08B_N (SOIC, 8-Leads, Body 4.9x3.9mm, Pitch 1.27mm, Exposed Pad, IPC Medium Density)
footprint MRA08B_L (SOIC, 8-Leads, Body 4.9x3.9mm, Pitch 1.27mm, Exposed Pad, IPC High Density)
footprint MRA08B_M (SOIC, 8-Leads, Body 4.9x3.9mm, Pitch 1.27mm, Exposed Pad, IPC Low Density)
pins: 1 BOOT, 2 NC, 3 RT/SYNC (in), 4 FB (in), 5 EN (in), 6 GND (power), 7 VIN (power), 8 SW (power), 9 DAP (power)

## LM22670MRX-ADJ/NOPB
designator U?
3A SIMPLE SWITCHER®, Step-Down Voltage Regulator with Synchronization or Adjustable Switching Frequency, 8-pin PSOP, Pb-Free; PartNumber: LM22670MRX-ADJ/NOPB; Manufacturer: National Semiconductor; PackageTopMarking: NSXYTT*L22670*ADJ; PowerWise: N; Published: 1-Mar-2010; DatasheetVersion: Oct-2008; PackageVersion: revB, Dec-2007; PackageReference: MRA08B; Publisher: Altium Limited; PackageDescription: Molded, PSOP .193 x .154 x .058in, 8 Lead, .050in Pitch, Large DAP; Supplier 1: Digi-Key; Supplier Part Number 1: LM22670MRX-ADJ-ND; RoHS: Y; PinCount: 8; CompType: Switcher; Code_JEDEC: MS-012-AA; ComponentLink1Description: LM22670 Datasheet; ComponentLink1URL: http://www.national.com/ds/LM/LM22670.pdf; ComponentLink2Description: LM22670 Web Page; ComponentLink2URL: http://www.national.com/pf/LM/LM22670.html; ComponentLink3Description: MRA08B Package Page; ComponentLink3URL: http://www.national.com/packaging/folders/mra08b.html
footprint MRA08B_N (SOIC, 8-Leads, Body 4.9x3.9mm, Pitch 1.27mm, Exposed Pad, IPC Medium Density)
footprint MRA08B_L (SOIC, 8-Leads, Body 4.9x3.9mm, Pitch 1.27mm, Exposed Pad, IPC High Density)
footprint MRA08B_M (SOIC, 8-Leads, Body 4.9x3.9mm, Pitch 1.27mm, Exposed Pad, IPC Low Density)
pins: 1 BOOT, 2 NC, 3 RT/SYNC (in), 4 FB (in), 5 EN (in), 6 GND (power), 7 VIN (power), 8 SW (power), 9 DAP (power)

## LM22670TJ-5.0
designator U?
3A SIMPLE SWITCHER® Step-Down Voltage Regulator with Synchronization or Adjustable Switching Frequency, 7-pin TO-263 Thin; PartNumber: LM22670TJ-5.0; Manufacturer: National Semiconductor; PackageTopMarking: NSUZXYTTE#*LM22670*TJ-5.0; PowerWise: N; Published: 4-Dec-2008; DatasheetVersion: Oct-2008; PackageVersion: revC, Jan-2008; PackageReference: TJ7A; Publisher: Altium Limited; PackageDescription: Thin TO-263, Molded, 9.85 x 10.16 x 2mm Body, 7 Lead, 1.27mm Pitch, Surface Mount; RoHS: Y; PinCount: 7; CompType: Switcher; ComponentLink1Description: LM22670 Datasheet; ComponentLink1URL: http://www.national.com/ds/LM/LM22670.pdf; ComponentLink2Description: LM22670 Web Page; ComponentLink2URL: http://www.national.com/pf/LM/LM22670.html; ComponentLink3Description: TJ7A Package Page; ComponentLink3URL: http://www.national.com/packaging/folders/tj7a.html
footprint TJ7A_N (D2-PAK, 8-Leads, Body 9.9x10.2mm, Pitch 1.27mm, Lead Span 14mm, IPC Medium Density)
footprint TJ7A_L (D2-PAK, 8-Leads, Body 9.9x10.2mm, Pitch 1.27mm, Lead Span 14mm, IPC High Density)
footprint TJ7A_M (D2-PAK, 8-Leads, Body 9.9x10.2mm, Pitch 1.27mm, Lead Span 14mm, IPC Low Density)
pins: 1 SW (power), 2 VIN (power), 3 BOOT, 4 GND (power), 5 RT/SYNC (in), 6 FB (in), 7 EN (in), 8 DAP (power)

## LM22670TJ-5.0/NOPB
designator U?
3A SIMPLE SWITCHER®, Step-Down Voltage Regulator with Synchronization or Adjustable Switching Frequency, 7-pin TO-263 Thin, Pb-Free; PartNumber: LM22670TJ-5.0/NOPB; Manufacturer: National Semiconductor; PackageTopMarking: NSUZXYTTE#*LM22670*TJ-5.0; PowerWise: N; Published: 1-Mar-2010; DatasheetVersion: Oct-2008; PackageVersion: revC, Jan-2008; PackageReference: TJ7A; Publisher: Altium Limited; PackageDescription: Thin TO-263, Molded, 9.85 x 10.16 x 2mm Body, 7 Lead, 1.27mm Pitch, Surface Mount; Supplier 1: Digi-Key; Supplier Part Number 1: LM22670TJ-5.0-ND; RoHS: Y; PinCount: 7; CompType: Switcher; ComponentLink1Description: LM22670 Datasheet; ComponentLink1URL: http://www.national.com/ds/LM/LM22670.pdf; ComponentLink2Description: LM22670 Web Page; ComponentLink2URL: http://www.national.com/pf/LM/LM22670.html; ComponentLink3Description: TJ7A Package Page; ComponentLink3URL: http://www.national.com/packaging/folders/tj7a.html
footprint TJ7A_N (D2-PAK, 8-Leads, Body 9.9x10.2mm, Pitch 1.27mm, Lead Span 14mm, IPC Medium Density)
footprint TJ7A_L (D2-PAK, 8-Leads, Body 9.9x10.2mm, Pitch 1.27mm, Lead Span 14mm, IPC High Density)
footprint TJ7A_M (D2-PAK, 8-Leads, Body 9.9x10.2mm, Pitch 1.27mm, Lead Span 14mm, IPC Low Density)
pins: 1 SW (power), 2 VIN (power), 3 BOOT, 4 GND (power), 5 RT/SYNC (in), 6 FB (in), 7 EN (in), 8 DAP (power)

## LM22670TJ-ADJ
designator U?
3A SIMPLE SWITCHER® Step-Down Voltage Regulator with Synchronization or Adjustable Switching Frequency, 7-pin TO-263 Thin; PartNumber: LM22670TJ-ADJ; Manufacturer: National Semiconductor; PackageTopMarking: NSUZXYTTE#*LM22670*TJ-ADJ; PowerWise: N; Published: 4-Dec-2008; DatasheetVersion: Oct-2008; PackageVersion: revC, Jan-2008; PackageReference: TJ7A; Publisher: Altium Limited; PackageDescription: Thin TO-263, Molded, 9.85 x 10.16 x 2mm Body, 7 Lead, 1.27mm Pitch, Surface Mount; RoHS: Y; PinCount: 7; CompType: Switcher; ComponentLink1Description: LM22670 Datasheet; ComponentLink1URL: http://www.national.com/ds/LM/LM22670.pdf; ComponentLink2Description: LM22670 Web Page; ComponentLink2URL: http://www.national.com/pf/LM/LM22670.html; ComponentLink3Description: TJ7A Package Page; ComponentLink3URL: http://www.national.com/packaging/folders/tj7a.html
footprint TJ7A_N (D2-PAK, 8-Leads, Body 9.9x10.2mm, Pitch 1.27mm, Lead Span 14mm, IPC Medium Density)
footprint TJ7A_L (D2-PAK, 8-Leads, Body 9.9x10.2mm, Pitch 1.27mm, Lead Span 14mm, IPC High Density)
footprint TJ7A_M (D2-PAK, 8-Leads, Body 9.9x10.2mm, Pitch 1.27mm, Lead Span 14mm, IPC Low Density)
pins: 1 SW (power), 2 VIN (power), 3 BOOT, 4 GND (power), 5 RT/SYNC (in), 6 FB (in), 7 EN (in), 8 DAP (power)

## LM22670TJ-ADJ/NOPB
designator U?
3A SIMPLE SWITCHER®, Step-Down Voltage Regulator with Synchronization or Adjustable Switching Frequency, 7-pin TO-263 Thin, Pb-Free; PartNumber: LM22670TJ-ADJ/NOPB; Manufacturer: National Semiconductor; PackageTopMarking: NSUZXYTTE#*LM22670*TJ-ADJ; PowerWise: N; Published: 1-Mar-2010; DatasheetVersion: Oct-2008; PackageVersion: revC, Jan-2008; PackageReference: TJ7A; Publisher: Altium Limited; PackageDescription: Thin TO-263, Molded, 9.85 x 10.16 x 2mm Body, 7 Lead, 1.27mm Pitch, Surface Mount; Supplier 1: Digi-Key; Supplier Part Number 1: LM22670TJ-ADJ-ND; RoHS: Y; PinCount: 7; CompType: Switcher; ComponentLink1Description: LM22670 Datasheet; ComponentLink1URL: http://www.national.com/ds/LM/LM22670.pdf; ComponentLink2Description: LM22670 Web Page; ComponentLink2URL: http://www.national.com/pf/LM/LM22670.html; ComponentLink3Description: TJ7A Package Page; ComponentLink3URL: http://www.national.com/packaging/folders/tj7a.html
footprint TJ7A_N (D2-PAK, 8-Leads, Body 9.9x10.2mm, Pitch 1.27mm, Lead Span 14mm, IPC Medium Density)
footprint TJ7A_L (D2-PAK, 8-Leads, Body 9.9x10.2mm, Pitch 1.27mm, Lead Span 14mm, IPC High Density)
footprint TJ7A_M (D2-PAK, 8-Leads, Body 9.9x10.2mm, Pitch 1.27mm, Lead Span 14mm, IPC Low Density)
pins: 1 SW (power), 2 VIN (power), 3 BOOT, 4 GND (power), 5 RT/SYNC (in), 6 FB (in), 7 EN (in), 8 DAP (power)

## LM22670TJE-5.0/NOPB
designator U?
3A SIMPLE SWITCHER®, Step-Down Voltage Regulator with Synchronization or Adjustable Switching Frequency, 7-pin TO-263 Thin, Pb-Free; PartNumber: LM22670TJE-5.0/NOPB; Manufacturer: National Semiconductor; PackageTopMarking: NSUZXYTTE#*LM22670*TJ-5.0; PowerWise: N; Published: 1-Mar-2010; DatasheetVersion: Oct-2008; PackageVersion: revC, Jan-2008; PackageReference: TJ7A; Publisher: Altium Limited; PackageDescription: Thin TO-263, Molded, 9.85 x 10.16 x 2mm Body, 7 Lead, 1.27mm Pitch, Surface Mount; Supplier 1: Digi-Key; Supplier Part Number 1: LM22670TJE-5.0TR-ND; Supplier 2: Digi-Key; Supplier Part Number 2: LM22670TJE-5.0CT-ND; Supplier 3: Digi-Key; Supplier Part Number 3: LM22670TJE-5.0DKR-ND; Supplier 4: Farnell; Supplier Part Number 4: 1685794; RoHS: Y; PinCount: 7; CompType: Switcher; ComponentLink1Description: LM22670 Datasheet; ComponentLink1URL: http://www.national.com/ds/LM/LM22670.pdf; ComponentLink2Description: LM22670 Web Page; ComponentLink2URL: http://www.national.com/pf/LM/LM22670.html; ComponentLink3Description: TJ7A Package Page; ComponentLink3URL: http://www.national.com/packaging/folders/tj7a.html
footprint TJ7A_N (D2-PAK, 8-Leads, Body 9.9x10.2mm, Pitch 1.27mm, Lead Span 14mm, IPC Medium Density)
footprint TJ7A_L (D2-PAK, 8-Leads, Body 9.9x10.2mm, Pitch 1.27mm, Lead Span 14mm, IPC High Density)
footprint TJ7A_M (D2-PAK, 8-Leads, Body 9.9x10.2mm, Pitch 1.27mm, Lead Span 14mm, IPC Low Density)
pins: 1 SW (power), 2 VIN (power), 3 BOOT, 4 GND (power), 5 RT/SYNC (in), 6 FB (in), 7 EN (in), 8 DAP (power)

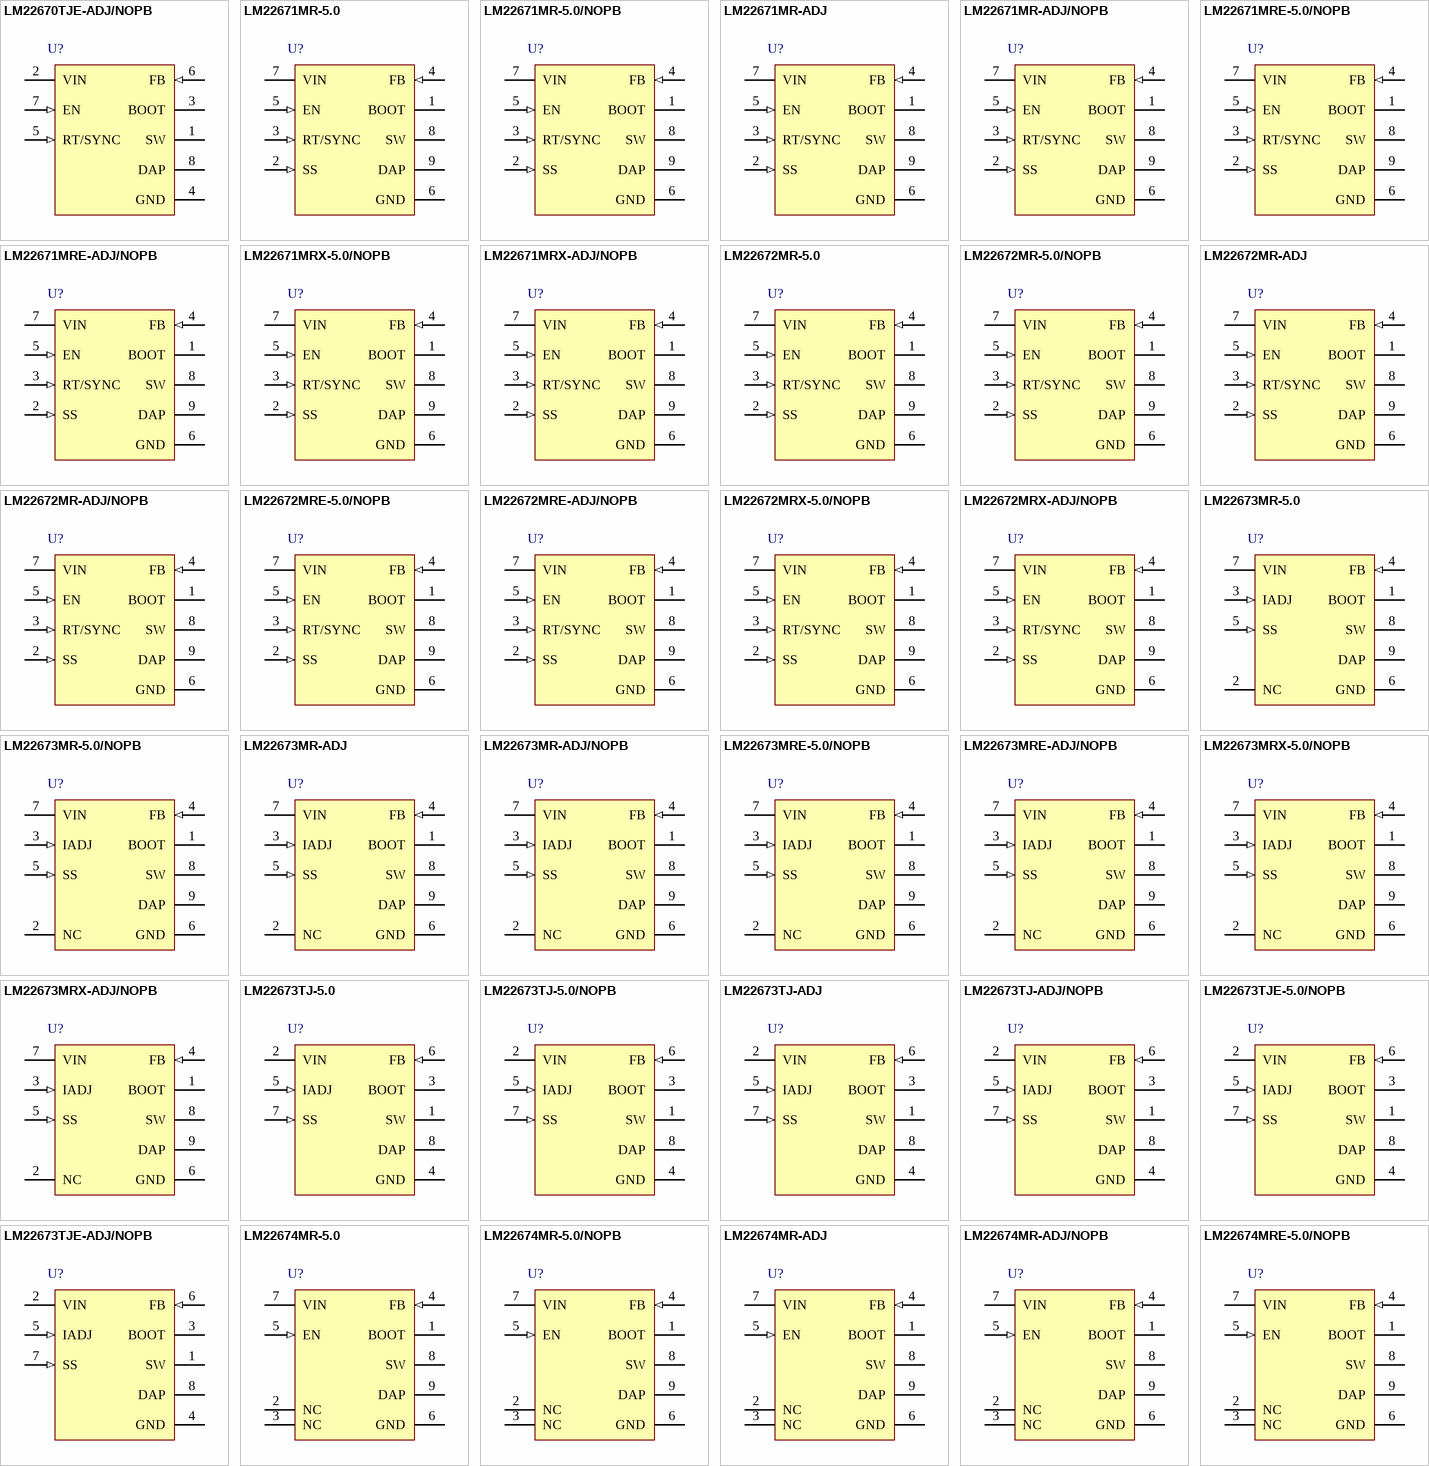
[diagram p49: symbols LM22670TJE-ADJ/NOPB to LM22674MRE-5.0/NOPB]

## LM22670TJE-ADJ/NOPB
designator U?
3A SIMPLE SWITCHER®, Step-Down Voltage Regulator with Synchronization or Adjustable Switching Frequency, 7-pin TO-263 Thin, Pb-Free; PartNumber: LM22670TJE-ADJ/NOPB; Manufacturer: National Semiconductor; PackageTopMarking: NSUZXYTTE#*LM22670*TJ-ADJ; PowerWise: N; Published: 1-Mar-2010; DatasheetVersion: Oct-2008; PackageVersion: revC, Jan-2008; PackageReference: TJ7A; Publisher: Altium Limited; PackageDescription: Thin TO-263, Molded, 9.85 x 10.16 x 2mm Body, 7 Lead, 1.27mm Pitch, Surface Mount; Supplier 1: Digi-Key; Supplier Part Number 1: LM22670TJE-ADJTR-ND; Supplier 2: Digi-Key; Supplier Part Number 2: LM22670TJE-ADJCT-ND; Supplier 3: Digi-Key; Supplier Part Number 3: LM22670TJE-ADJDKR-ND; Supplier 4: Farnell; Supplier Part Number 4: 1685793; RoHS: Y; PinCount: 7; CompType: Switcher; ComponentLink1Description: LM22670 Datasheet; ComponentLink1URL: http://www.national.com/ds/LM/LM22670.pdf; ComponentLink2Description: LM22670 Web Page; ComponentLink2URL: http://www.national.com/pf/LM/LM22670.html; ComponentLink3Description: TJ7A Package Page; ComponentLink3URL: http://www.national.com/packaging/folders/tj7a.html
footprint TJ7A_N (D2-PAK, 8-Leads, Body 9.9x10.2mm, Pitch 1.27mm, Lead Span 14mm, IPC Medium Density)
footprint TJ7A_L (D2-PAK, 8-Leads, Body 9.9x10.2mm, Pitch 1.27mm, Lead Span 14mm, IPC High Density)
footprint TJ7A_M (D2-PAK, 8-Leads, Body 9.9x10.2mm, Pitch 1.27mm, Lead Span 14mm, IPC Low Density)
pins: 1 SW (power), 2 VIN (power), 3 BOOT, 4 GND (power), 5 RT/SYNC (in), 6 FB (in), 7 EN (in), 8 DAP (power)

## LM22671MR-5.0
designator U?
500mA SIMPLE SWITCHER® Step-Down Voltage Regulator with Features, 8-pin PSOP; PartNumber: LM22671MR-5.0; Manufacturer: National Semiconductor; PackageTopMarking: NSXYTT*L22671*5.0; PowerWise: N; Published: 4-Dec-2008; DatasheetVersion: Oct-2008; PackageVersion: revB, Dec-2007; PackageReference: MRA08B; Publisher: Altium Limited; PackageDescription: Molded, PSOP .193 x .154 x .058in, 8 Lead, .050in Pitch, Large DAP; RoHS: Y; PinCount: 8; CompType: Switcher; Code_JEDEC: MS-012-AA; ComponentLink1Description: LM22671 Datasheet; ComponentLink1URL: http://www.national.com/ds/LM/LM22671.pdf; ComponentLink2Description: LM22671 Web Page; ComponentLink2URL: http://www.national.com/pf/LM/LM22671.html; ComponentLink3Description: MRA08B Package Page; ComponentLink3URL: http://www.national.com/packaging/folders/mra08b.html
footprint MRA08B_N (SOIC, 8-Leads, Body 4.9x3.9mm, Pitch 1.27mm, Exposed Pad, IPC Medium Density)
footprint MRA08B_L (SOIC, 8-Leads, Body 4.9x3.9mm, Pitch 1.27mm, Exposed Pad, IPC High Density)
footprint MRA08B_M (SOIC, 8-Leads, Body 4.9x3.9mm, Pitch 1.27mm, Exposed Pad, IPC Low Density)
pins: 1 BOOT, 2 SS (in), 3 RT/SYNC (in), 4 FB (in), 5 EN (in), 6 GND (power), 7 VIN (power), 8 SW (power), 9 DAP (power)

## LM22671MR-5.0/NOPB
designator U?
500 mA SIMPLE SWITCHER®, Step-Down Voltage Regulator with Features, 8-pin PSOP, Pb-Free; PartNumber: LM22671MR-5.0/NOPB; Manufacturer: National Semiconductor; PackageTopMarking: NSXYTT*L22671*5.0; PowerWise: N; Published: 1-Mar-2010; DatasheetVersion: Oct-2008; PackageVersion: revB, Dec-2007; PackageReference: MRA08B; Publisher: Altium Limited; PackageDescription: Molded, PSOP .193 x .154 x .058in, 8 Lead, .050in Pitch, Large DAP; Supplier 1: Digi-Key; Supplier Part Number 1: LM22671MR-5.0-ND; RoHS: Y; PinCount: 8; CompType: Switcher; Code_JEDEC: MS-012-AA; ComponentLink1Description: LM22671 Datasheet; ComponentLink1URL: http://www.national.com/ds/LM/LM22671.pdf; ComponentLink2Description: LM22671 Web Page; ComponentLink2URL: http://www.national.com/pf/LM/LM22671.html; ComponentLink3Description: MRA08B Package Page; ComponentLink3URL: http://www.national.com/packaging/folders/mra08b.html
footprint MRA08B_N (SOIC, 8-Leads, Body 4.9x3.9mm, Pitch 1.27mm, Exposed Pad, IPC Medium Density)
footprint MRA08B_L (SOIC, 8-Leads, Body 4.9x3.9mm, Pitch 1.27mm, Exposed Pad, IPC High Density)
footprint MRA08B_M (SOIC, 8-Leads, Body 4.9x3.9mm, Pitch 1.27mm, Exposed Pad, IPC Low Density)
pins: 1 BOOT, 2 SS (in), 3 RT/SYNC (in), 4 FB (in), 5 EN (in), 6 GND (power), 7 VIN (power), 8 SW (power), 9 DAP (power)

## LM22671MR-ADJ
designator U?
500mA SIMPLE SWITCHER® Step-Down Voltage Regulator with Features, 8-pin PSOP; PartNumber: LM22671MR-ADJ; Manufacturer: National Semiconductor; PackageTopMarking: NSXYTT*L22671*ADJ; PowerWise: N; Published: 4-Dec-2008; DatasheetVersion: Oct-2008; PackageVersion: revB, Dec-2007; PackageReference: MRA08B; Publisher: Altium Limited; PackageDescription: Molded, PSOP .193 x .154 x .058in, 8 Lead, .050in Pitch, Large DAP; RoHS: Y; PinCount: 8; CompType: Switcher; Code_JEDEC: MS-012-AA; ComponentLink1Description: LM22671 Datasheet; ComponentLink1URL: http://www.national.com/ds/LM/LM22671.pdf; ComponentLink2Description: LM22671 Web Page; ComponentLink2URL: http://www.national.com/pf/LM/LM22671.html; ComponentLink3Description: MRA08B Package Page; ComponentLink3URL: http://www.national.com/packaging/folders/mra08b.html
footprint MRA08B_N (SOIC, 8-Leads, Body 4.9x3.9mm, Pitch 1.27mm, Exposed Pad, IPC Medium Density)
footprint MRA08B_L (SOIC, 8-Leads, Body 4.9x3.9mm, Pitch 1.27mm, Exposed Pad, IPC High Density)
footprint MRA08B_M (SOIC, 8-Leads, Body 4.9x3.9mm, Pitch 1.27mm, Exposed Pad, IPC Low Density)
pins: 1 BOOT, 2 SS (in), 3 RT/SYNC (in), 4 FB (in), 5 EN (in), 6 GND (power), 7 VIN (power), 8 SW (power), 9 DAP (power)